# Altium schematic symbol library AC-DC-module-4-pin.Schlib: 1 symbol
Pins are listed as number, name and electrical type; pins without a type are passive.

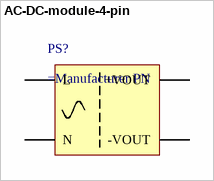
[diagram p0: symbol AC-DC-module-4-pin]

## AC-DC-module-4-pin
designator PS?
AC/DC Converter, Generic Symbol
pins: L, N, V+ +VOUT, V- -VOUT